# Altium footprint library LogoG.PcbLib: 6 footprints
Each footprint in its own frame and in the unit in brackets; x right, y up, seen from the top. Pads: shape width x height; smd on the part's side, far side on the other; paste and mask are expansions set on the pad; w line width, h text height; cw(c..) or ccw(c..) is an arc to the next point about the centre after c.
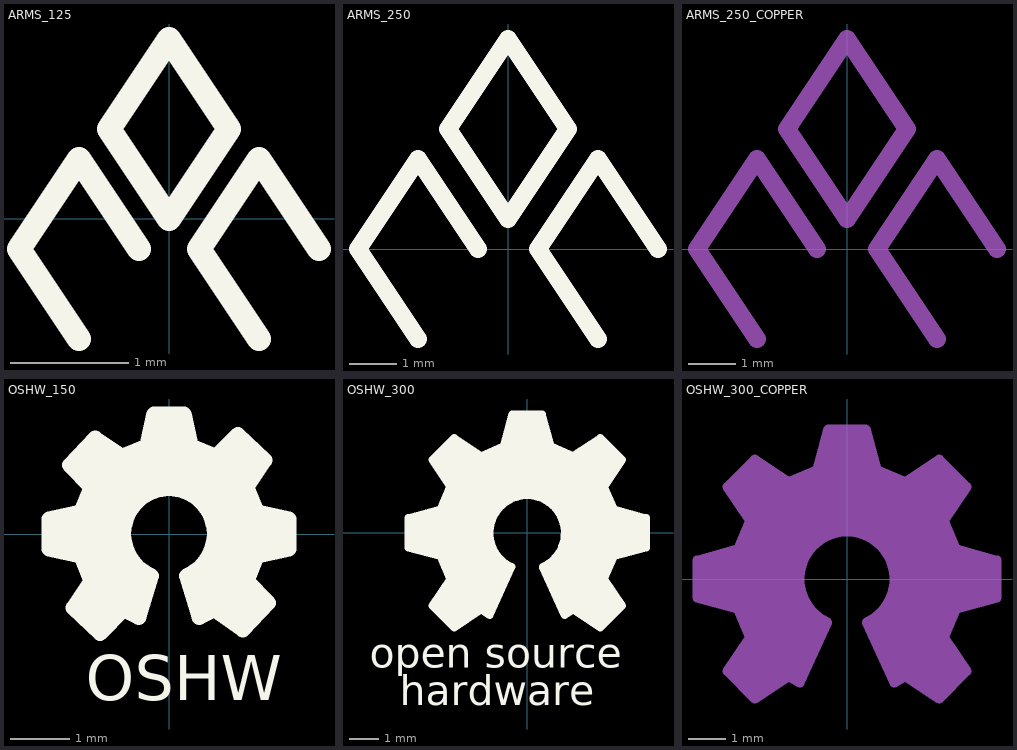
[diagram p0: the footprints below, top view; thin cyan lines are the x and y axes]

## ARMS_125 [mm]
Top Overlay:
  lines w0.203: -0.762,-1.016 -1.27,-0.254 -0.762,0.508 -0.254,-0.254 ; 0.762,-1.016 0.254,-0.254 0.762,0.508 1.27,-0.254 ; -0.508,0.762 0,1.524 0.508,0.762 0,0 -0.508,0.762

## ARMS_250 [mm]
Top Overlay:
  lines w0.381: -1.905,-1.905 -3.175,0 -1.905,1.905 -0.635,0 ; 1.905,-1.905 0.635,0 1.905,1.905 3.175,0 ; -1.27,2.54 0,4.445 1.27,2.54 0,0.635 -1.27,2.54

## ARMS_250_COPPER [mm]
Top Solder:
  lines w0.381: -1.905,-1.905 -3.175,0 -1.905,1.905 -0.635,0 ; 1.905,-1.905 0.635,0 1.905,1.905 3.175,0 ; -1.27,2.54 0,4.445 1.27,2.54 0,0.635 -1.27,2.54

## OSHW_150 [mm]
Top Overlay:
  region: -1.611,-1.239 -1.307,-0.784 -1.478,-0.37 -2.016,-0.252 -2.016,0.252 -1.478,0.37 -1.307,0.784 -1.671,1.157 -1.239,1.611 -0.784,1.307 -0.37,1.478 -0.252,2.016 0.252,2.016 0.37,1.478 0.784,1.307 1.157,1.671 1.578,1.27 1.307,0.784 1.478,0.37 2.016,0.252 2.016,-0.252 1.478,-0.37 1.307,-0.784 1.671,-1.157 1.239,-1.611 0.762,-1.27 0.508,-1.397 0.312,-0.762 0.508,-0.508 0.762,-0.254 0.762,0.254 0.254,0.762 -0.254,0.762 -0.762,0.254 -0.762,-0.254 -0.508,-0.508 -0.294,-0.703 -0.508,-1.397 -0.762,-1.27 -1.157,-1.671
  lines w0.254: -2.016,-0.252 -2.016,0.252 ; -2.016,-0.252 -1.478,-0.37 ; -2.016,-0.252 -1.478,-0.37 ; -2.016,0.252 -1.478,0.37 ; -2.016,0.252 -1.478,0.37 ; -1.611,-1.239 -1.307,-0.784 ; -1.611,-1.239 -1.157,-1.671 -0.762,-1.27 -0.508,-1.397 -0.294,-0.703 cw(c0,0) 0.294,-0.703 0.508,-1.397 0.762,-1.27 1.239,-1.611 1.671,-1.157 1.307,-0.784 1.478,-0.37 2.016,-0.252 2.016,0.252 1.478,0.37 1.307,0.784 1.611,1.239 1.157,1.671 0.784,1.307 0.37,1.478 0.252,2.016 -0.252,2.016 -0.37,1.478 -0.784,1.307 -1.239,1.611 -1.671,1.157 -1.307,0.784 -1.478,0.37 ; -1.611,-1.239 -1.307,-0.784 ; -1.478,-0.37 -1.307,-0.784
  text "OSHW" at -1.397,-2.794 h0.76

## OSHW_300 [mm]
Top Overlay:
  region: 0.526,-1.156 1.27,-2.794 1.568,-2.614 2.478,-3.221 3.221,-2.478 2.614,-1.568 2.941,-0.802 4.033,-0.504 4.033,0.504 2.941,0.802 2.614,1.568 3.221,2.478 2.478,3.221 1.568,2.614 0.802,2.941 0.504,4.033 -0.504,4.033 -0.802,2.941 -1.568,2.614 -2.478,3.221 -3.221,2.478 -2.614,1.568 -2.941,0.802 -4.033,0.504 -4.033,-0.504 -2.941,-0.802 -2.614,-1.568 -3.221,-2.478 -2.478,-3.221 -1.568,-2.614 -1.27,-2.794 -0.526,-1.156 -1.016,-0.762 -1.27,-0.254 -1.27,0.254 -0.762,1.016 0,1.27 0.762,1.016 1.27,0.254 1.27,-0.254 1.016,-0.762
  lines w0.254: -4.033,-0.504 -2.941,-0.802 -2.614,-1.568 -3.221,-2.478 -2.478,-3.221 -1.568,-2.614 -1.27,-2.794 -0.526,-1.156 cw(c0,0) 0.526,-1.156 1.27,-2.794 1.568,-2.614 2.478,-3.221 3.221,-2.478 2.614,-1.568 2.941,-0.802 4.033,-0.504 4.033,0.504 2.941,0.802 2.614,1.568 3.221,2.478 2.478,3.221 1.568,2.614 0.802,2.941 0.504,4.033 -0.504,4.033 -0.802,2.941 -1.568,2.614 -2.478,3.221 -3.221,2.478 -2.614,1.568 -2.941,0.802 -4.033,0.504 -4.033,-0.504
  text "open source" at -5.334,-4.572 h1.02
  text "hardware" at -4.318,-5.842 h1.02

## OSHW_300_COPPER [mm]
Top Solder:
  region: 0.526,-1.156 1.27,-2.794 1.568,-2.614 2.478,-3.221 3.221,-2.478 2.614,-1.568 2.941,-0.802 4.033,-0.504 4.033,0.504 2.941,0.802 2.614,1.568 3.221,2.478 2.478,3.221 1.568,2.614 0.802,2.941 0.504,4.033 -0.504,4.033 -0.802,2.941 -1.568,2.614 -2.478,3.221 -3.221,2.478 -2.614,1.568 -2.941,0.802 -4.033,0.504 -4.033,-0.504 -2.941,-0.802 -2.614,-1.568 -3.221,-2.478 -2.478,-3.221 -1.568,-2.614 -1.27,-2.794 -0.526,-1.156 -1.016,-0.762 -1.27,-0.254 -1.27,0.254 -0.762,1.016 0,1.27 0.762,1.016 1.27,0.254 1.27,-0.254 1.016,-0.762
  lines w0.254: -4.033,-0.504 -4.033,0.504 -2.941,0.802 -2.614,1.568 -3.221,2.478 -2.478,3.221 -1.568,2.614 -0.802,2.941 -0.504,4.033 0.504,4.033 0.802,2.941 1.568,2.614 2.478,3.221 3.221,2.478 2.614,1.568 2.941,0.802 4.033,0.504 4.033,-0.504 2.941,-0.802 2.614,-1.568 3.221,-2.478 2.478,-3.221 1.568,-2.614 1.27,-2.794 0.526,-1.156 ccw(c0,0) -0.526,-1.156 -1.27,-2.794 -1.568,-2.614 -2.478,-3.221 -3.221,-2.478 -2.614,-1.568 -2.941,-0.802 -4.033,-0.504
  text "hardware" at -4.318,-5.842 h1.02
  text "open source" at -5.334,-4.572 h1.02